# EAGLE library part ISO124 (library Bus-isolators)
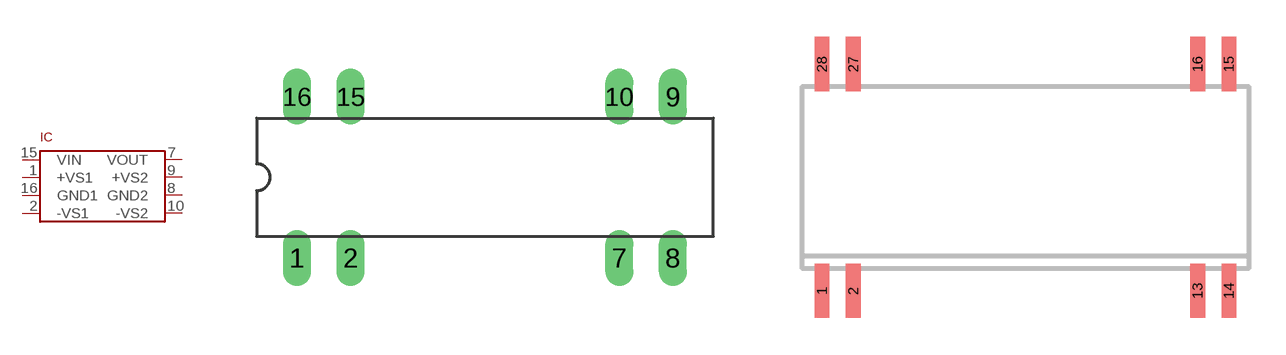
[diagram p3: symbol with the pads of DIL16/8; footprints DIL16/8, SO28/8W]

Designator prefix IC

## ISO124P  [DIL16/8]
1  +VS1  pwr
2  -VS1  pwr
7  VOUT  out
8  GND2  pwr
9  +VS2  pwr
10  -VS2  pwr
15  VIN  in
16  GND1  pwr

## ISO124U  [SO28/8W]
1  +VS1  pwr
2  -VS1  pwr
13  VOUT  out
14  GND2  pwr
15  +VS2  pwr
16  -VS2  pwr
27  VIN  in
28  GND1  pwr

## Footprint DIL16/8 (pad centres in mm)
drill 0.813 long: 1 -8.89,-3.81; 2 -6.35,-3.81; 7 6.35,-3.81; 8 8.89,-3.81; 9 8.89,3.81; 10 6.35,3.81; 15 -6.35,3.81; 16 -8.89,3.81

## Footprint SO28/8W (pad centres in mm)
smd 0.6 x 2.2: 1 -8.255,-4.6; 2 -6.985,-4.6; 13 6.985,-4.6; 14 8.255,-4.6; 15 8.255,4.6; 16 6.985,4.6; 27 -6.985,4.6; 28 -8.255,4.6